# Altium footprint library 2002112100010C4LF.PcbLib: 1 footprints
Each footprint in its own frame and in the unit in brackets; x right, y up, seen from the top. Pads: shape width x height; smd on the part's side, far side on the other; paste and mask are expansions set on the pad; w line width, h text height; cw(c..) or ccw(c..) is an arc to the next point about the centre after c.
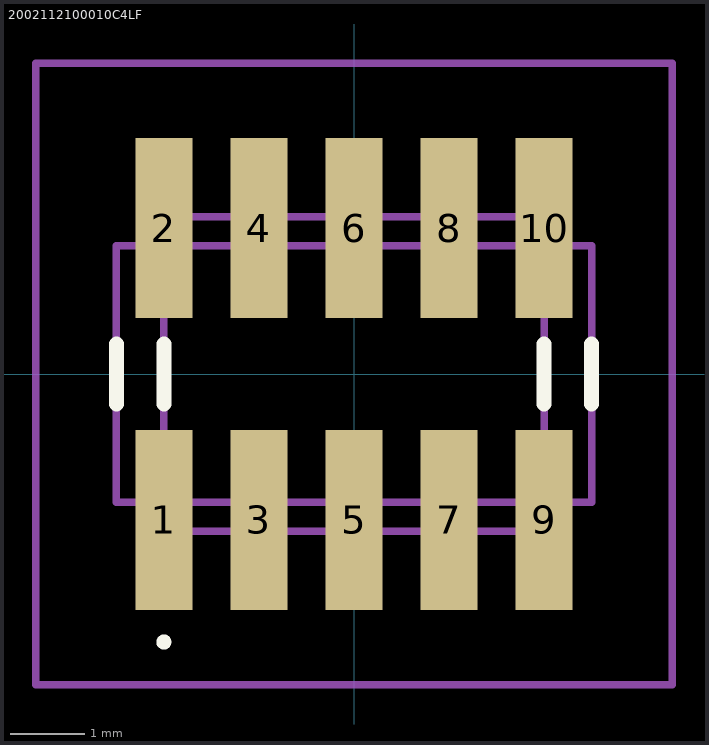
[diagram p0: the footprint, top view; thin cyan lines are the x and y axes]

## 2002112100010C4LF [mm]
pads (10):
  rect 0.76x2.4 smd: 1(-2.54,-1.95) 2(-2.54,1.95) 3(-1.27,-1.95) 4(-1.27,1.95) 5(0,-1.95) 6(0,1.95) 7(1.27,-1.95) 8(1.27,1.95) 9(2.54,-1.95) 10(2.54,1.95)
Top Overlay:
  lines w0.1: -2.54,-3.63 -2.54,-3.63 ; -2.54,-3.63 ccw(c-2.54,-3.58) -2.54,-3.53 ; -2.54,-3.63 cw(c-2.54,-3.58) -2.54,-3.53 ; -2.54,-3.53 -2.54,-3.53
  lines w0.2: -3.175,-0.4 -3.175,0.4 ; -2.54,-0.4 -2.54,0.4 ; 2.54,-0.4 2.54,0.4 ; 3.175,-0.4 3.175,0.4
Mechanical 15:
  lines w0.1: -3.175,-1.715 3.175,-1.715 3.175,1.715 -3.175,1.715 -3.175,-1.715 ; -2.54,-2.1 2.54,-2.1 2.54,2.1 -2.54,2.1 -2.54,-2.1
Mechanical 20:
  lines w0.1: -4.25,-4.15 4.25,-4.15 4.25,4.15 -4.25,4.15 -4.25,-4.15